# Altium footprint library 无刷驱动-STC-无感-Lite3S.PcbLib: 19 footprints (part 2 of 2)
Each footprint in its own frame and in the unit in brackets; x right, y up, seen from the top. Pads: shape width x height; smd on the part's side, far side on the other; paste and mask are expansions set on the pad; w line width, h text height; cw(c..) or ccw(c..) is an arc to the next point about the centre after c.
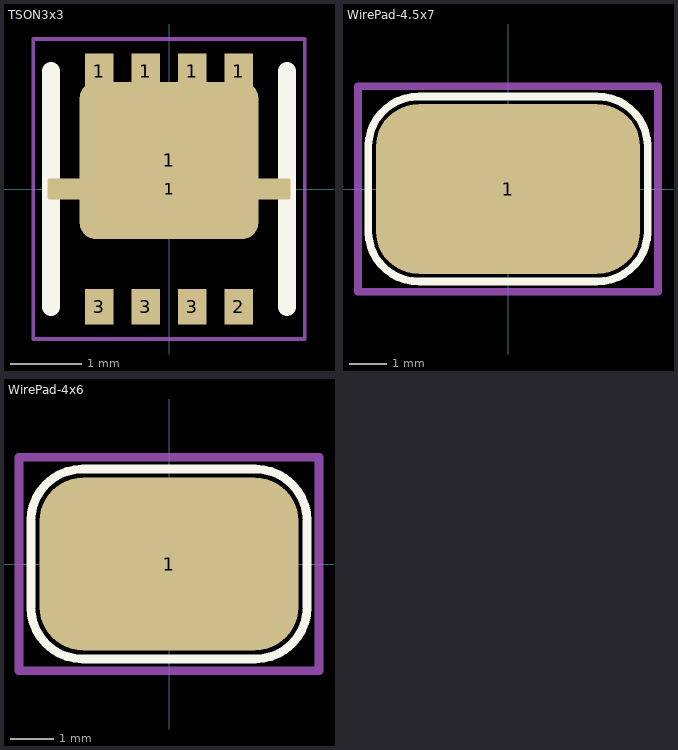
[diagram p1: the footprints below, top view; thin cyan lines are the x and y axes]

## TSON3x3 [mm]
pads (10):
  rect 0.4x0.5 smd: 1(-0.975,1.65) 1(-0.325,1.65) 1(0.325,1.65) 1(0.975,1.65) 2(0.975,-1.65) 3(-0.975,-1.65) 3(-0.325,-1.65) 3(0.325,-1.65)
  rrect20% 3.4x0.3 smd: 1(0,0)
  rrect20% 2.5x2.2 smd: 1(0,0.4)
Top Overlay:
  lines w0.254: -1.65,-1.65 -1.65,1.65 ; 1.65,-1.65 1.65,1.65
Top Designator:
  text ".Designator" at -2.25,-0.226 h1
Top Component Outline:
  lines w0.05: -1.9,-2.1 -1.9,2.1 1.9,2.1 1.9,-2.1 -1.9,-2.1
Top Component Center:
  circle w0.025: c0,0 r0.225
  lines w0.025: -0.45,0 0.45,0 ; 0,-0.45 0,0.45
3D body: height 0.17, standoff 0, extent -1.125,-1.65 -0.825,-1.55
3D body: height 0.17, standoff 0, extent -0.475,-1.65 -0.175,-1.55
3D body: height 0.17, standoff 0, extent -1.125,1.55 -0.825,1.65
3D body: height 0.17, standoff 0, extent -0.475,1.55 -0.175,1.65
3D body: height 0.17, standoff 0, extent 0.175,-1.65 0.475,-1.55
3D body: height 0.17, standoff 0, extent 0.825,-1.65 1.125,-1.55
3D body: height 0.17, standoff 0, extent 0.175,1.55 0.475,1.65
3D body: height 0.17, standoff 0, extent 0.825,1.55 1.125,1.65
3D body: height 0.17, standoff 0, extent -1.25,-0.7 1.25,1.55
3D body: height 0.17, standoff 0, extent -1.662,-0.125 1.663,0.125
3D body: height 0.85, standoff 0, extent -1.55,-1.55 1.55,1.55

## WirePad-4.5x7 [mm] "焊线盘 表贴 4mm x 6mm"
pads (1):
  rrect50% 7x4.5 smd: 1(0,0)
Top Overlay:
  lines w0.203: -3.7,-1.15 ccw(c-2.375,-1.125) -2.35,-2.45 2.35,-2.45 ccw(c2.375,-1.125) 3.7,-1.15 3.7,1.15 ccw(c2.375,1.125) 2.35,2.45 -2.35,2.45 ccw(c-2.375,1.125) -3.7,1.15 -3.7,-1.15
Top Designator:
  text ".Designator" at -2.25,-0.226 h1
Top Component Outline:
  lines w0.2: -3.975,-2.725 3.975,-2.725 3.975,2.725 -3.975,2.725 -3.975,-2.725
Top Component Center:
  circle w0.1: c0,0 r0.5
  lines w0.1: -1,0 1,0 ; 0,-1 0,1

## WirePad-4x6 [mm] "焊线盘 表贴 4.5mm x 7mm"
pads (1):
  rrect50% 6x4 smd: 1(0,0)
Top Overlay:
  lines w0.203: -3.2,-1 ccw(c-2,-1) -2,-2.2 2,-2.2 ccw(c2,-1) 3.2,-1 3.2,1 ccw(c2,1) 2,2.2 -2,2.2 ccw(c-2,1) -3.2,1 -3.2,-1
Top Designator:
  text ".Designator" at -2.25,-0.226 h1
Top Component Outline:
  lines w0.2: -3.475,-2.475 3.475,-2.475 3.475,2.475 -3.475,2.475 -3.475,-2.475
Top Component Center:
  circle w0.1: c0,0 r0.5
  lines w0.1: -1,0 1,0 ; 0,-1 0,1